# EAGLE library part M06 (library pie)
6-pin 0.1-inch MTA connector
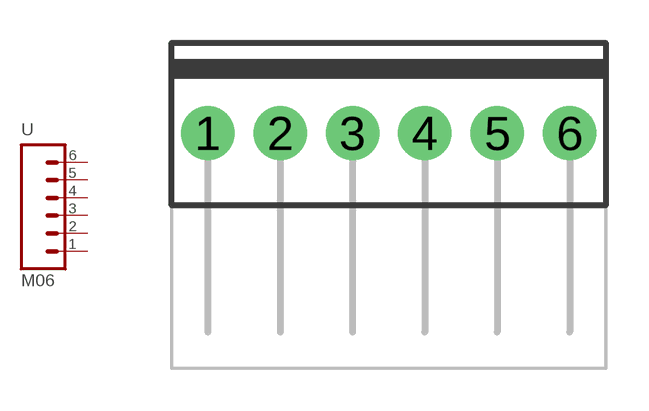
[diagram p7: symbol with the pads of 1X06-MTA; footprint 1X06-MTA]

Designator prefix -

## M06 (PIE-INT-REF-NUM: MTA)  [1X06-MTA]
1  1  pas
2  2  pas
3  3  pas
4  4  pas
5  5  pas
6  6  pas

## Footprint 1X06-MTA (pad centres in mm)
6-pin MTA connector Digikey page <http://www.digikey.com/product-detail/en/te-connectivity-amp-connectors/640456-6/A1923-ND/109008>
drill 1.016 pad 1.88: 1 -6.35,0; 2 -3.81,0; 3 -1.27,0; 4 1.27,0; 5 3.81,0; 6 6.35,0